# EAGLE library part SSM2305 (library LITTLEBITS140826)
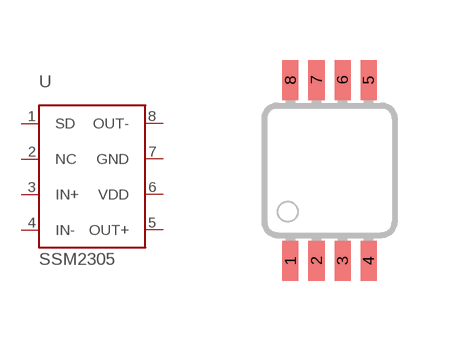
[diagram p32: symbol with the pads of MSOP08; footprint MSOP08]

Designator prefix -

## SSM2305  [MSOP08]
1  SD
2  NC
3  IN+
4  IN-
5  OUT+
6  VDD
7  GND
8  OUT-

## Footprint MSOP08 (pad centres in mm)
smd 0.4 x 1: 1 0.294,-0.993; 2 0.944,-0.993; 3 1.594,-0.993; 4 2.244,-0.993; 5 2.244,3.532; 6 1.594,3.532; 7 0.944,3.532; 8 0.294,3.532